# Altium schematic symbol library FCX690B.Schlib: 1 symbol
Pins are listed as number, name and electrical type; pins without a type are passive.

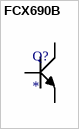
[diagram p0: symbol FCX690B]

## FCX690B
designator Q?
Trans GP BJT PNP 40V 3-Pin SOT-23
pins: 1 B, 2 E, 3 C